# Altium footprint library PicoLED.PcbLib: 2 footprints
Each footprint in its own frame and in the unit in brackets; x right, y up, seen from the top. Pads: shape width x height; smd on the part's side, far side on the other; paste and mask are expansions set on the pad; w line width, h text height; cw(c..) or ccw(c..) is an arc to the next point about the centre after c.
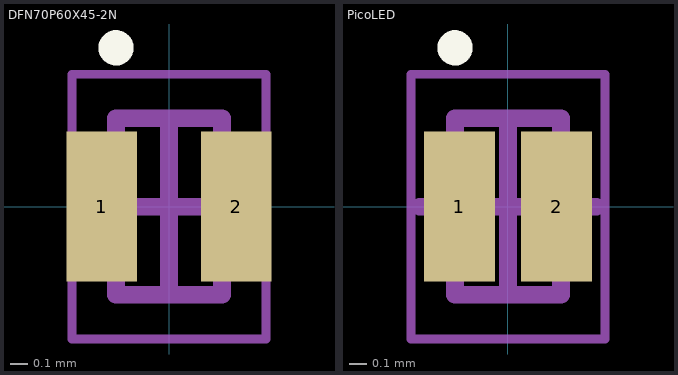
[diagram p0: the footprints below, top view; thin cyan lines are the x and y axes]

## DFN70P60X45-2N [mm] "DFN, 2-Leads, Body 1.00x0.60mm, Pitch 0.70mm, IPC Medium Density"
height 0.45
pads (2):
  rect 0.4x0.85 smd: 1(-0.381,0) 2(0.381,0)
Top Overlay:
  circle w0.1: c-0.3,0.9 r0.05
Mechanical 13:
  lines w0.1: -0.3,-0.5 -0.3,0.5 0.3,0.5 0.3,-0.5 -0.3,-0.5
Mechanical 15:
  lines w0.05: -0.55,-0.75 -0.55,0.75 0.55,0.75 0.55,-0.75 -0.55,-0.75
  lines w0.1: -0.5,0 0.5,0 ; 0,-0.5 0,0.5
3D body: height 0.45, standoff 0, extent -0.3,-0.5 0.3,0.5

## PicoLED [mm] "DFN, 2-Leads, Body 1.00x0.60mm, Pitch 0.55mm, IPC Medium Density"
height 0.45
pads (2):
  rect 0.4x0.85 smd: 1(-0.275,0) 2(0.275,0)
Top Overlay:
  circle w0.1: c-0.3,0.9 r0.05
Mechanical 13:
  lines w0.1: -0.3,-0.5 -0.3,0.5 0.3,0.5 0.3,-0.5 -0.3,-0.5
Mechanical 15:
  lines w0.05: -0.55,-0.75 -0.55,0.75 0.55,0.75 0.55,-0.75 -0.55,-0.75
  lines w0.1: -0.5,0 0.5,0 ; 0,-0.5 0,0.5
3D body: height 0.45, standoff 0, extent -0.3,-0.5 0.3,0.5